# Altium schematic symbol library kmilo17pet-LT_OpAmp_LT2000.SchLib: 1710 symbols (part 70 of 75)
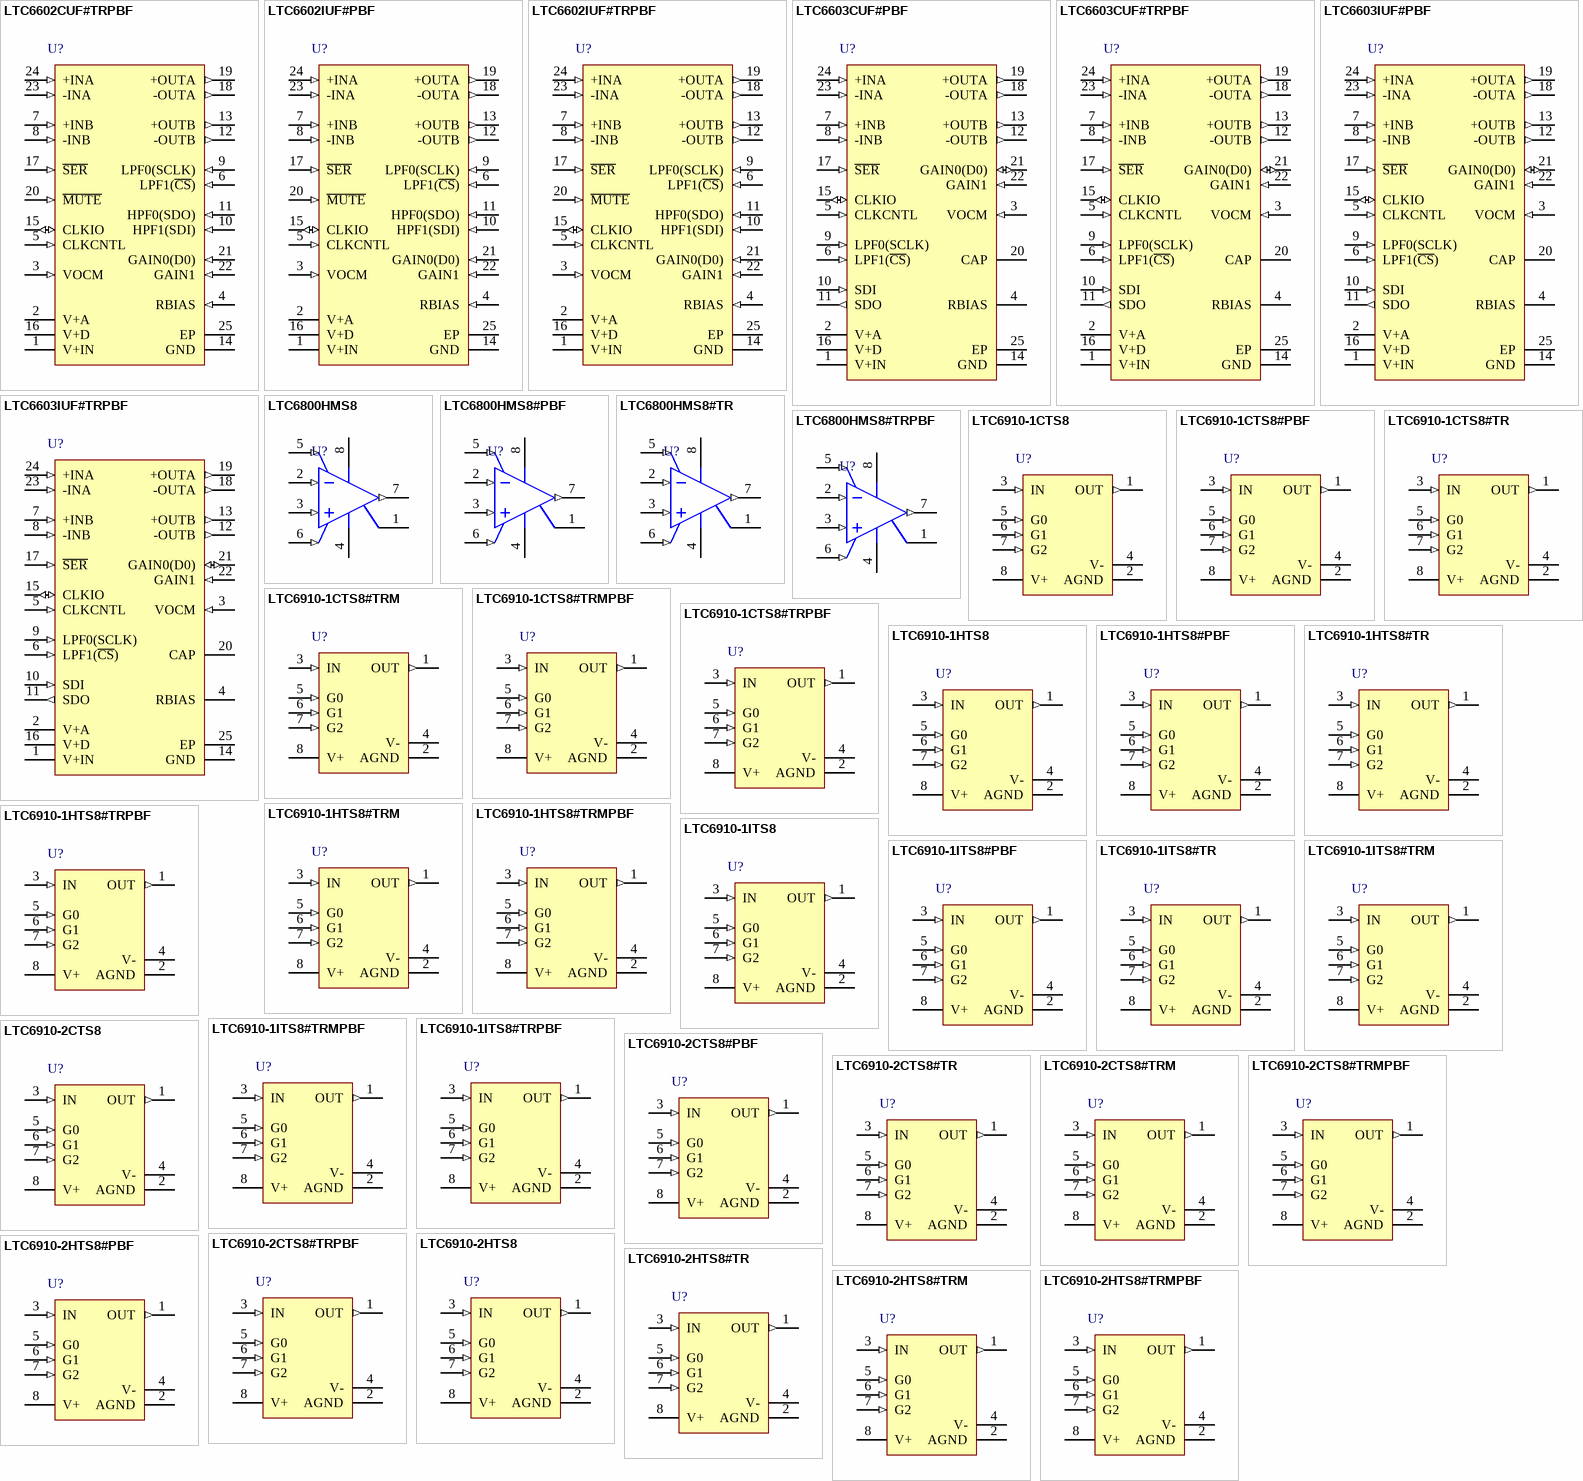
[diagram p149: symbols LTC6602CUF#TRPBF to LTC6910-2HTS8#TRMPBF]

## LTC6910-2CTS8#TRMPBF
designator U?
Single Channel, Digitally Controlled Programmable Gain Amplifier, 11 MHz Typical GBW, 16 V/us Typical SR, 2.7 to 11 V, 8-Pin SOT23 (TS8-8), Commercial, Pb-Free, Mini Reel; Linear Technology Part Number: LTC6910-2; Manufacturer: Linear Technology; PartNumber: LTC6910-2CTS8#TRMPBF; Channels (#): 1; GBW (MHz) Typical: 11; Is (mA) Typical: 2; SR (V/us) Typical: 16; Vos (mV) Typical: 3; Vs Min (V): 2.7; DatasheetVersion: Rev. A; PackageVersion: Rev A; PackageReference: LT-TS8-8-TSOT-23; PackageDescription: 8-Lead Plastic TSOT-23, Body 2.9 x 1.63 mm, Pitch 0.65 mm; Supplier 1: Digi-Key; Supplier Part Number 1: LTC6910-2CTS8#TRMPBFTR-ND; Supplier 2: Digi-Key; Supplier Part Number 2: LTC6910-2CTS8#TRMPBFCT-ND; Supplier 3: Digi-Key; Supplier Part Number 3: LTC6910-2CTS8#TRMPBFDKR-ND; Supplier 4: Farnell; Supplier Part Number 4: 1663931; Supplier 5: Farnell; Supplier Part Number 5: 1663931RL; Supplier 6: Newark; Supplier Part Number 6: 57M0342; Packing: Mini Reel; RoHS: Pb-Free; Type: PGA; Vs Max (V): 11; Mounting Technology: Surface Mount; Code_JEDEC: MO-193; ComponentLink1Description: Manufacturer URL; ComponentLink1URL: http://www.linear.com/; ComponentLink2Description: Datasheet; ComponentLink2URL: http://cds.linear.com/docs/en/datasheet/6910123fa.pdf; ComponentLink3Description: Package Specification; ComponentLink3URL: http://cds.linear.com/docs/en/packaging/SOT_8_05-08-1637.pdf
footprint LT-TS8-8-TSOT-23_V (SOT23, 8-Leads, Body 2.90x1.63mm, Pitch 0.65mm, IPC High Density, Recommended)
pins: 1 OUT (out) "Analog Output. This is the output of an internal operational amplifier and swings to near the power supply rails (V+ and V-) as specified in the Electrical Characteristics table.", 2 AGND (power) "Analog Ground. The AGND pin is at the midpoint of an internal resistive voltage divider, develop- ing a potential halfway between the V+ and V- pins, with an equivalent series resistance to the pin of nominally 5k ohm.", 3 IN (in) "Analog Input. The input signal to the amplifier in the LTC6910-X is the voltage difference between the IN and AGND pins.", 4 V- (power) "Power Supply Pin.", 5 G0 (in) "CMOS-Level Digital Gain- Control Input.", 6 G1 (in) "CMOS-Level Digital Gain- Control Input.", 7 G2 (in) "CMOS-Level Digital Gain- Control Input.", 8 V+ (power) "Power Supply Pin."

## LTC6910-2CTS8#TRPBF
designator U?
Single Channel, Digitally Controlled Programmable Gain Amplifier, 11 MHz Typical GBW, 16 V/us Typical SR, 2.7 to 11 V, 8-Pin SOT23 (TS8-8), Commercial, Pb-Free, Reel; Linear Technology Part Number: LTC6910-2; Manufacturer: Linear Technology; PartNumber: LTC6910-2CTS8#TRPBF; Channels (#): 1; GBW (MHz) Typical: 11; Is (mA) Typical: 2; SR (V/us) Typical: 16; Vos (mV) Typical: 3; Vs Min (V): 2.7; DatasheetVersion: Rev. A; PackageVersion: Rev A; PackageReference: LT-TS8-8-TSOT-23; PackageDescription: 8-Lead Plastic TSOT-23, Body 2.9 x 1.63 mm, Pitch 0.65 mm; Supplier 1: Digi-Key; Supplier Part Number 1: LTC6910-2CTS8#TRPBF-ND; Packing: Reel; RoHS: Pb-Free; Type: PGA; Vs Max (V): 11; Mounting Technology: Surface Mount; Code_JEDEC: MO-193; ComponentLink1Description: Manufacturer URL; ComponentLink1URL: http://www.linear.com/; ComponentLink2Description: Datasheet; ComponentLink2URL: http://cds.linear.com/docs/en/datasheet/6910123fa.pdf; ComponentLink3Description: Package Specification; ComponentLink3URL: http://cds.linear.com/docs/en/packaging/SOT_8_05-08-1637.pdf
footprint LT-TS8-8-TSOT-23_V (SOT23, 8-Leads, Body 2.90x1.63mm, Pitch 0.65mm, IPC High Density, Recommended)
pins: 1 OUT (out) "Analog Output. This is the output of an internal operational amplifier and swings to near the power supply rails (V+ and V-) as specified in the Electrical Characteristics table.", 2 AGND (power) "Analog Ground. The AGND pin is at the midpoint of an internal resistive voltage divider, develop- ing a potential halfway between the V+ and V- pins, with an equivalent series resistance to the pin of nominally 5k ohm.", 3 IN (in) "Analog Input. The input signal to the amplifier in the LTC6910-X is the voltage difference between the IN and AGND pins.", 4 V- (power) "Power Supply Pin.", 5 G0 (in) "CMOS-Level Digital Gain- Control Input.", 6 G1 (in) "CMOS-Level Digital Gain- Control Input.", 7 G2 (in) "CMOS-Level Digital Gain- Control Input.", 8 V+ (power) "Power Supply Pin."

## LTC6910-2HTS8
designator U?
Single Channel, Digitally Controlled Programmable Gain Amplifier, 11 MHz Typical GBW, 16 V/us Typical SR, 2.7 to 11 V, 8-Pin SOT23 (TS8-8), High Temperature / Automotive; Linear Technology Part Number: LTC6910-2; Manufacturer: Linear Technology; PartNumber: LTC6910-2HTS8; Channels (#): 1; GBW (MHz) Typical: 11; Is (mA) Typical: 2; SR (V/us) Typical: 16; Vos (mV) Typical: 3; Vs Min (V): 2.7; DatasheetVersion: Rev. A; PackageVersion: Rev A; PackageReference: LT-TS8-8-TSOT-23; PackageDescription: 8-Lead Plastic TSOT-23, Body 2.9 x 1.63 mm, Pitch 0.65 mm; Type: PGA; Vs Max (V): 11; Mounting Technology: Surface Mount; Code_JEDEC: MO-193; ComponentLink1Description: Manufacturer URL; ComponentLink1URL: http://www.linear.com/; ComponentLink2Description: Datasheet; ComponentLink2URL: http://cds.linear.com/docs/en/datasheet/6910123fa.pdf; ComponentLink3Description: Package Specification; ComponentLink3URL: http://cds.linear.com/docs/en/packaging/SOT_8_05-08-1637.pdf
footprint LT-TS8-8-TSOT-23_V (SOT23, 8-Leads, Body 2.90x1.63mm, Pitch 0.65mm, IPC High Density, Recommended)
pins: 1 OUT (out) "Analog Output. This is the output of an internal operational amplifier and swings to near the power supply rails (V+ and V-) as specified in the Electrical Characteristics table.", 2 AGND (power) "Analog Ground. The AGND pin is at the midpoint of an internal resistive voltage divider, develop- ing a potential halfway between the V+ and V- pins, with an equivalent series resistance to the pin of nominally 5k ohm.", 3 IN (in) "Analog Input. The input signal to the amplifier in the LTC6910-X is the voltage difference between the IN and AGND pins.", 4 V- (power) "Power Supply Pin.", 5 G0 (in) "CMOS-Level Digital Gain- Control Input.", 6 G1 (in) "CMOS-Level Digital Gain- Control Input.", 7 G2 (in) "CMOS-Level Digital Gain- Control Input.", 8 V+ (power) "Power Supply Pin."

## LTC6910-2HTS8#PBF
designator U?
Single Channel, Digitally Controlled Programmable Gain Amplifier, 11 MHz Typical GBW, 16 V/us Typical SR, 2.7 to 11 V, 8-Pin SOT23 (TS8-8), High Temperature / Automotive, Pb-Free; Linear Technology Part Number: LTC6910-2; Manufacturer: Linear Technology; PartNumber: LTC6910-2HTS8#PBF; Channels (#): 1; GBW (MHz) Typical: 11; Is (mA) Typical: 2; SR (V/us) Typical: 16; Vos (mV) Typical: 3; Vs Min (V): 2.7; DatasheetVersion: Rev. A; PackageVersion: Rev A; PackageReference: LT-TS8-8-TSOT-23; PackageDescription: 8-Lead Plastic TSOT-23, Body 2.9 x 1.63 mm, Pitch 0.65 mm; Supplier 1: Newark; Supplier Part Number 1: 78T3520; RoHS: Pb-Free; Type: PGA; Vs Max (V): 11; Mounting Technology: Surface Mount; Code_JEDEC: MO-193; ComponentLink1Description: Manufacturer URL; ComponentLink1URL: http://www.linear.com/; ComponentLink2Description: Datasheet; ComponentLink2URL: http://cds.linear.com/docs/en/datasheet/6910123fa.pdf; ComponentLink3Description: Package Specification; ComponentLink3URL: http://cds.linear.com/docs/en/packaging/SOT_8_05-08-1637.pdf
footprint LT-TS8-8-TSOT-23_V (SOT23, 8-Leads, Body 2.90x1.63mm, Pitch 0.65mm, IPC High Density, Recommended)
pins: 1 OUT (out) "Analog Output. This is the output of an internal operational amplifier and swings to near the power supply rails (V+ and V-) as specified in the Electrical Characteristics table.", 2 AGND (power) "Analog Ground. The AGND pin is at the midpoint of an internal resistive voltage divider, develop- ing a potential halfway between the V+ and V- pins, with an equivalent series resistance to the pin of nominally 5k ohm.", 3 IN (in) "Analog Input. The input signal to the amplifier in the LTC6910-X is the voltage difference between the IN and AGND pins.", 4 V- (power) "Power Supply Pin.", 5 G0 (in) "CMOS-Level Digital Gain- Control Input.", 6 G1 (in) "CMOS-Level Digital Gain- Control Input.", 7 G2 (in) "CMOS-Level Digital Gain- Control Input.", 8 V+ (power) "Power Supply Pin."

## LTC6910-2HTS8#TR
designator U?
Single Channel, Digitally Controlled Programmable Gain Amplifier, 11 MHz Typical GBW, 16 V/us Typical SR, 2.7 to 11 V, 8-Pin SOT23 (TS8-8), High Temperature / Automotive, Reel; Linear Technology Part Number: LTC6910-2; Manufacturer: Linear Technology; PartNumber: LTC6910-2HTS8#TR; Channels (#): 1; GBW (MHz) Typical: 11; Is (mA) Typical: 2; SR (V/us) Typical: 16; Vos (mV) Typical: 3; Vs Min (V): 2.7; DatasheetVersion: Rev. A; PackageVersion: Rev A; PackageReference: LT-TS8-8-TSOT-23; PackageDescription: 8-Lead Plastic TSOT-23, Body 2.9 x 1.63 mm, Pitch 0.65 mm; Supplier 1: Digi-Key; Supplier Part Number 1: LTC6910-2HTS8#TR-ND; Packing: Reel; Type: PGA; Vs Max (V): 11; Mounting Technology: Surface Mount; Code_JEDEC: MO-193; ComponentLink1Description: Manufacturer URL; ComponentLink1URL: http://www.linear.com/; ComponentLink2Description: Datasheet; ComponentLink2URL: http://cds.linear.com/docs/en/datasheet/6910123fa.pdf; ComponentLink3Description: Package Specification; ComponentLink3URL: http://cds.linear.com/docs/en/packaging/SOT_8_05-08-1637.pdf
footprint LT-TS8-8-TSOT-23_V (SOT23, 8-Leads, Body 2.90x1.63mm, Pitch 0.65mm, IPC High Density, Recommended)
pins: 1 OUT (out) "Analog Output. This is the output of an internal operational amplifier and swings to near the power supply rails (V+ and V-) as specified in the Electrical Characteristics table.", 2 AGND (power) "Analog Ground. The AGND pin is at the midpoint of an internal resistive voltage divider, develop- ing a potential halfway between the V+ and V- pins, with an equivalent series resistance to the pin of nominally 5k ohm.", 3 IN (in) "Analog Input. The input signal to the amplifier in the LTC6910-X is the voltage difference between the IN and AGND pins.", 4 V- (power) "Power Supply Pin.", 5 G0 (in) "CMOS-Level Digital Gain- Control Input.", 6 G1 (in) "CMOS-Level Digital Gain- Control Input.", 7 G2 (in) "CMOS-Level Digital Gain- Control Input.", 8 V+ (power) "Power Supply Pin."

## LTC6910-2HTS8#TRM
designator U?
Single Channel, Digitally Controlled Programmable Gain Amplifier, 11 MHz Typical GBW, 16 V/us Typical SR, 2.7 to 11 V, 8-Pin SOT23 (TS8-8), High Temperature / Automotive, Mini Reel; Linear Technology Part Number: LTC6910-2; Manufacturer: Linear Technology; PartNumber: LTC6910-2HTS8#TRM; Channels (#): 1; GBW (MHz) Typical: 11; Is (mA) Typical: 2; SR (V/us) Typical: 16; Vos (mV) Typical: 3; Vs Min (V): 2.7; DatasheetVersion: Rev. A; PackageVersion: Rev A; PackageReference: LT-TS8-8-TSOT-23; PackageDescription: 8-Lead Plastic TSOT-23, Body 2.9 x 1.63 mm, Pitch 0.65 mm; Supplier 1: Digi-Key; Supplier Part Number 1: LTC6910-2HTS8#TRMTR-ND; Supplier 2: Digi-Key; Supplier Part Number 2: LTC6910-2HTS8#TRMCT-ND; Packing: Mini Reel; Type: PGA; Vs Max (V): 11; Mounting Technology: Surface Mount; Code_JEDEC: MO-193; ComponentLink1Description: Manufacturer URL; ComponentLink1URL: http://www.linear.com/; ComponentLink2Description: Datasheet; ComponentLink2URL: http://cds.linear.com/docs/en/datasheet/6910123fa.pdf; ComponentLink3Description: Package Specification; ComponentLink3URL: http://cds.linear.com/docs/en/packaging/SOT_8_05-08-1637.pdf
footprint LT-TS8-8-TSOT-23_V (SOT23, 8-Leads, Body 2.90x1.63mm, Pitch 0.65mm, IPC High Density, Recommended)
pins: 1 OUT (out) "Analog Output. This is the output of an internal operational amplifier and swings to near the power supply rails (V+ and V-) as specified in the Electrical Characteristics table.", 2 AGND (power) "Analog Ground. The AGND pin is at the midpoint of an internal resistive voltage divider, develop- ing a potential halfway between the V+ and V- pins, with an equivalent series resistance to the pin of nominally 5k ohm.", 3 IN (in) "Analog Input. The input signal to the amplifier in the LTC6910-X is the voltage difference between the IN and AGND pins.", 4 V- (power) "Power Supply Pin.", 5 G0 (in) "CMOS-Level Digital Gain- Control Input.", 6 G1 (in) "CMOS-Level Digital Gain- Control Input.", 7 G2 (in) "CMOS-Level Digital Gain- Control Input.", 8 V+ (power) "Power Supply Pin."

## LTC6910-2HTS8#TRMPBF
designator U?
Single Channel, Digitally Controlled Programmable Gain Amplifier, 11 MHz Typical GBW, 16 V/us Typical SR, 2.7 to 11 V, 8-Pin SOT23 (TS8-8), High Temperature / Automotive, Pb-Free, Mini Reel; Linear Technology Part Number: LTC6910-2; Manufacturer: Linear Technology; PartNumber: LTC6910-2HTS8#TRMPBF; Channels (#): 1; GBW (MHz) Typical: 11; Is (mA) Typical: 2; SR (V/us) Typical: 16; Vos (mV) Typical: 3; Vs Min (V): 2.7; DatasheetVersion: Rev. A; PackageVersion: Rev A; PackageReference: LT-TS8-8-TSOT-23; PackageDescription: 8-Lead Plastic TSOT-23, Body 2.9 x 1.63 mm, Pitch 0.65 mm; Supplier 1: Digi-Key; Supplier Part Number 1: LTC6910-2HTS8#TRMPBF-ND; Packing: Mini Reel; RoHS: Pb-Free; Type: PGA; Vs Max (V): 11; Mounting Technology: Surface Mount; Code_JEDEC: MO-193; ComponentLink1Description: Manufacturer URL; ComponentLink1URL: http://www.linear.com/; ComponentLink2Description: Datasheet; ComponentLink2URL: http://cds.linear.com/docs/en/datasheet/6910123fa.pdf; ComponentLink3Description: Package Specification; ComponentLink3URL: http://cds.linear.com/docs/en/packaging/SOT_8_05-08-1637.pdf
footprint LT-TS8-8-TSOT-23_V (SOT23, 8-Leads, Body 2.90x1.63mm, Pitch 0.65mm, IPC High Density, Recommended)
pins: 1 OUT (out) "Analog Output. This is the output of an internal operational amplifier and swings to near the power supply rails (V+ and V-) as specified in the Electrical Characteristics table.", 2 AGND (power) "Analog Ground. The AGND pin is at the midpoint of an internal resistive voltage divider, develop- ing a potential halfway between the V+ and V- pins, with an equivalent series resistance to the pin of nominally 5k ohm.", 3 IN (in) "Analog Input. The input signal to the amplifier in the LTC6910-X is the voltage difference between the IN and AGND pins.", 4 V- (power) "Power Supply Pin.", 5 G0 (in) "CMOS-Level Digital Gain- Control Input.", 6 G1 (in) "CMOS-Level Digital Gain- Control Input.", 7 G2 (in) "CMOS-Level Digital Gain- Control Input.", 8 V+ (power) "Power Supply Pin."

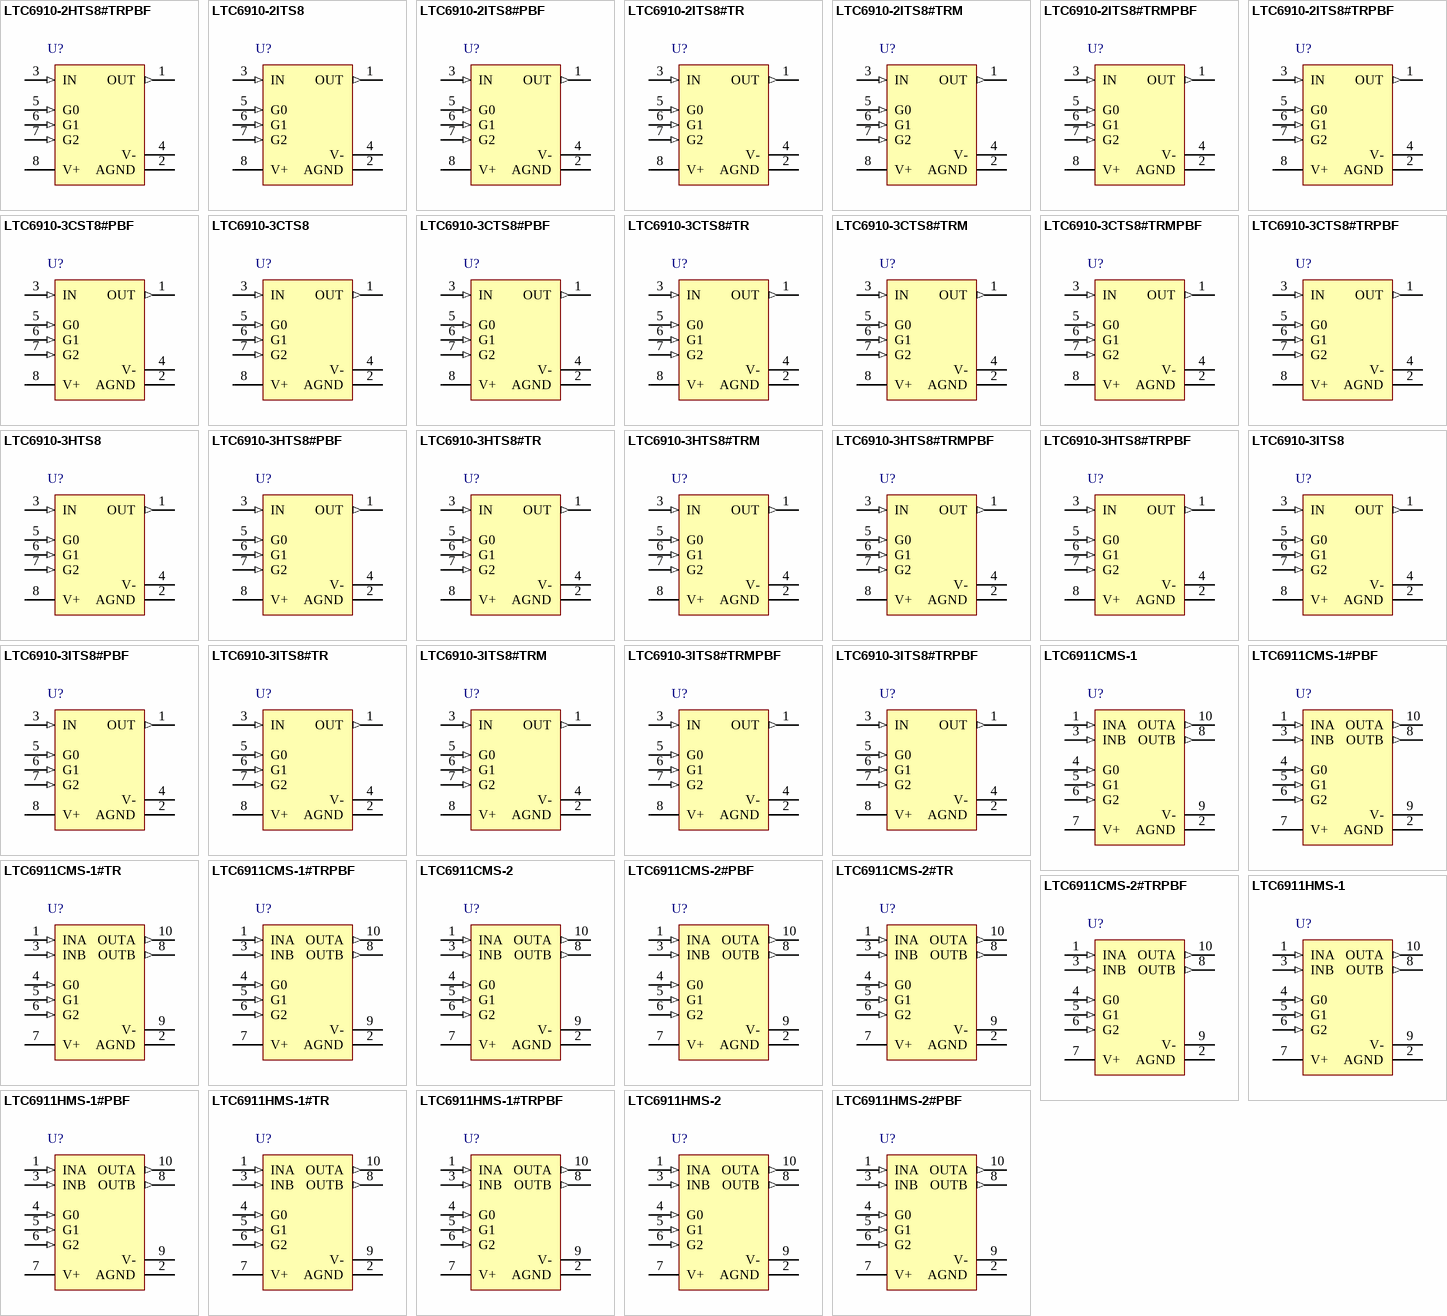
[diagram p78: symbols LTC6910-2HTS8#TRPBF to LTC6911HMS-2#PBF]

## LTC6910-2HTS8#TRPBF
designator U?
Single Channel, Digitally Controlled Programmable Gain Amplifier, 11 MHz Typical GBW, 16 V/us Typical SR, 2.7 to 11 V, 8-Pin SOT23 (TS8-8), High Temperature / Automotive, Pb-Free, Reel; Linear Technology Part Number: LTC6910-2; Manufacturer: Linear Technology; PartNumber: LTC6910-2HTS8#TRPBF; Channels (#): 1; GBW (MHz) Typical: 11; Is (mA) Typical: 2; SR (V/us) Typical: 16; Vos (mV) Typical: 3; Vs Min (V): 2.7; DatasheetVersion: Rev. A; PackageVersion: Rev A; PackageReference: LT-TS8-8-TSOT-23; PackageDescription: 8-Lead Plastic TSOT-23, Body 2.9 x 1.63 mm, Pitch 0.65 mm; Supplier 1: Digi-Key; Supplier Part Number 1: LTC6910-2HTS8#TRPBF-ND; Packing: Reel; RoHS: Pb-Free; Type: PGA; Vs Max (V): 11; Mounting Technology: Surface Mount; Code_JEDEC: MO-193; ComponentLink1Description: Manufacturer URL; ComponentLink1URL: http://www.linear.com/; ComponentLink2Description: Datasheet; ComponentLink2URL: http://cds.linear.com/docs/en/datasheet/6910123fa.pdf; ComponentLink3Description: Package Specification; ComponentLink3URL: http://cds.linear.com/docs/en/packaging/SOT_8_05-08-1637.pdf
footprint LT-TS8-8-TSOT-23_V (SOT23, 8-Leads, Body 2.90x1.63mm, Pitch 0.65mm, IPC High Density, Recommended)
pins: 1 OUT (out) "Analog Output. This is the output of an internal operational amplifier and swings to near the power supply rails (V+ and V-) as specified in the Electrical Characteristics table.", 2 AGND (power) "Analog Ground. The AGND pin is at the midpoint of an internal resistive voltage divider, develop- ing a potential halfway between the V+ and V- pins, with an equivalent series resistance to the pin of nominally 5k ohm.", 3 IN (in) "Analog Input. The input signal to the amplifier in the LTC6910-X is the voltage difference between the IN and AGND pins.", 4 V- (power) "Power Supply Pin.", 5 G0 (in) "CMOS-Level Digital Gain- Control Input.", 6 G1 (in) "CMOS-Level Digital Gain- Control Input.", 7 G2 (in) "CMOS-Level Digital Gain- Control Input.", 8 V+ (power) "Power Supply Pin."

## LTC6910-2ITS8
designator U?
Single Channel, Digitally Controlled Programmable Gain Amplifier, 11 MHz Typical GBW, 16 V/us Typical SR, 2.7 to 11 V, 8-Pin SOT23 (TS8-8), Industrial; Linear Technology Part Number: LTC6910-2; Manufacturer: Linear Technology; PartNumber: LTC6910-2ITS8; Channels (#): 1; GBW (MHz) Typical: 11; Is (mA) Typical: 2; SR (V/us) Typical: 16; Vos (mV) Typical: 3; Vs Min (V): 2.7; DatasheetVersion: Rev. A; PackageVersion: Rev A; PackageReference: LT-TS8-8-TSOT-23; PackageDescription: 8-Lead Plastic TSOT-23, Body 2.9 x 1.63 mm, Pitch 0.65 mm; Type: PGA; Vs Max (V): 11; Mounting Technology: Surface Mount; Code_JEDEC: MO-193; ComponentLink1Description: Manufacturer URL; ComponentLink1URL: http://www.linear.com/; ComponentLink2Description: Datasheet; ComponentLink2URL: http://cds.linear.com/docs/en/datasheet/6910123fa.pdf; ComponentLink3Description: Package Specification; ComponentLink3URL: http://cds.linear.com/docs/en/packaging/SOT_8_05-08-1637.pdf
footprint LT-TS8-8-TSOT-23_V (SOT23, 8-Leads, Body 2.90x1.63mm, Pitch 0.65mm, IPC High Density, Recommended)
pins: 1 OUT (out) "Analog Output. This is the output of an internal operational amplifier and swings to near the power supply rails (V+ and V-) as specified in the Electrical Characteristics table.", 2 AGND (power) "Analog Ground. The AGND pin is at the midpoint of an internal resistive voltage divider, develop- ing a potential halfway between the V+ and V- pins, with an equivalent series resistance to the pin of nominally 5k ohm.", 3 IN (in) "Analog Input. The input signal to the amplifier in the LTC6910-X is the voltage difference between the IN and AGND pins.", 4 V- (power) "Power Supply Pin.", 5 G0 (in) "CMOS-Level Digital Gain- Control Input.", 6 G1 (in) "CMOS-Level Digital Gain- Control Input.", 7 G2 (in) "CMOS-Level Digital Gain- Control Input.", 8 V+ (power) "Power Supply Pin."

## LTC6910-2ITS8#PBF
designator U?
Single Channel, Digitally Controlled Programmable Gain Amplifier, 11 MHz Typical GBW, 16 V/us Typical SR, 2.7 to 11 V, 8-Pin SOT23 (TS8-8), Industrial, Pb-Free; Linear Technology Part Number: LTC6910-2; Manufacturer: Linear Technology; PartNumber: LTC6910-2ITS8#PBF; Channels (#): 1; GBW (MHz) Typical: 11; Is (mA) Typical: 2; SR (V/us) Typical: 16; Vos (mV) Typical: 3; Vs Min (V): 2.7; DatasheetVersion: Rev. A; PackageVersion: Rev A; PackageReference: LT-TS8-8-TSOT-23; PackageDescription: 8-Lead Plastic TSOT-23, Body 2.9 x 1.63 mm, Pitch 0.65 mm; Supplier 1: Farnell; Supplier Part Number 1: 2294769; Supplier 2: Newark; Supplier Part Number 2: 78T3521; RoHS: Pb-Free; Type: PGA; Vs Max (V): 11; Mounting Technology: Surface Mount; Code_JEDEC: MO-193; ComponentLink1Description: Manufacturer URL; ComponentLink1URL: http://www.linear.com/; ComponentLink2Description: Datasheet; ComponentLink2URL: http://cds.linear.com/docs/en/datasheet/6910123fa.pdf; ComponentLink3Description: Package Specification; ComponentLink3URL: http://cds.linear.com/docs/en/packaging/SOT_8_05-08-1637.pdf
footprint LT-TS8-8-TSOT-23_V (SOT23, 8-Leads, Body 2.90x1.63mm, Pitch 0.65mm, IPC High Density, Recommended)
pins: 1 OUT (out) "Analog Output. This is the output of an internal operational amplifier and swings to near the power supply rails (V+ and V-) as specified in the Electrical Characteristics table.", 2 AGND (power) "Analog Ground. The AGND pin is at the midpoint of an internal resistive voltage divider, develop- ing a potential halfway between the V+ and V- pins, with an equivalent series resistance to the pin of nominally 5k ohm.", 3 IN (in) "Analog Input. The input signal to the amplifier in the LTC6910-X is the voltage difference between the IN and AGND pins.", 4 V- (power) "Power Supply Pin.", 5 G0 (in) "CMOS-Level Digital Gain- Control Input.", 6 G1 (in) "CMOS-Level Digital Gain- Control Input.", 7 G2 (in) "CMOS-Level Digital Gain- Control Input.", 8 V+ (power) "Power Supply Pin."

## LTC6910-2ITS8#TR
designator U?
Single Channel, Digitally Controlled Programmable Gain Amplifier, 11 MHz Typical GBW, 16 V/us Typical SR, 2.7 to 11 V, 8-Pin SOT23 (TS8-8), Industrial, Reel; Linear Technology Part Number: LTC6910-2; Manufacturer: Linear Technology; PartNumber: LTC6910-2ITS8#TR; Channels (#): 1; GBW (MHz) Typical: 11; Is (mA) Typical: 2; SR (V/us) Typical: 16; Vos (mV) Typical: 3; Vs Min (V): 2.7; DatasheetVersion: Rev. A; PackageVersion: Rev A; PackageReference: LT-TS8-8-TSOT-23; PackageDescription: 8-Lead Plastic TSOT-23, Body 2.9 x 1.63 mm, Pitch 0.65 mm; Supplier 1: Digi-Key; Supplier Part Number 1: LTC6910-2ITS8#TR-ND; Packing: Reel; Type: PGA; Vs Max (V): 11; Mounting Technology: Surface Mount; Code_JEDEC: MO-193; ComponentLink1Description: Manufacturer URL; ComponentLink1URL: http://www.linear.com/; ComponentLink2Description: Datasheet; ComponentLink2URL: http://cds.linear.com/docs/en/datasheet/6910123fa.pdf; ComponentLink3Description: Package Specification; ComponentLink3URL: http://cds.linear.com/docs/en/packaging/SOT_8_05-08-1637.pdf
footprint LT-TS8-8-TSOT-23_V (SOT23, 8-Leads, Body 2.90x1.63mm, Pitch 0.65mm, IPC High Density, Recommended)
pins: 1 OUT (out) "Analog Output. This is the output of an internal operational amplifier and swings to near the power supply rails (V+ and V-) as specified in the Electrical Characteristics table.", 2 AGND (power) "Analog Ground. The AGND pin is at the midpoint of an internal resistive voltage divider, develop- ing a potential halfway between the V+ and V- pins, with an equivalent series resistance to the pin of nominally 5k ohm.", 3 IN (in) "Analog Input. The input signal to the amplifier in the LTC6910-X is the voltage difference between the IN and AGND pins.", 4 V- (power) "Power Supply Pin.", 5 G0 (in) "CMOS-Level Digital Gain- Control Input.", 6 G1 (in) "CMOS-Level Digital Gain- Control Input.", 7 G2 (in) "CMOS-Level Digital Gain- Control Input.", 8 V+ (power) "Power Supply Pin."

## LTC6910-2ITS8#TRM
designator U?
Single Channel, Digitally Controlled Programmable Gain Amplifier, 11 MHz Typical GBW, 16 V/us Typical SR, 2.7 to 11 V, 8-Pin SOT23 (TS8-8), Industrial, Mini Reel; Linear Technology Part Number: LTC6910-2; Manufacturer: Linear Technology; PartNumber: LTC6910-2ITS8#TRM; Channels (#): 1; GBW (MHz) Typical: 11; Is (mA) Typical: 2; SR (V/us) Typical: 16; Vos (mV) Typical: 3; Vs Min (V): 2.7; DatasheetVersion: Rev. A; PackageVersion: Rev A; PackageReference: LT-TS8-8-TSOT-23; PackageDescription: 8-Lead Plastic TSOT-23, Body 2.9 x 1.63 mm, Pitch 0.65 mm; Supplier 1: Digi-Key; Supplier Part Number 1: LTC6910-2ITS8#TRM-ND; Packing: Mini Reel; Type: PGA; Vs Max (V): 11; Mounting Technology: Surface Mount; Code_JEDEC: MO-193; ComponentLink1Description: Manufacturer URL; ComponentLink1URL: http://www.linear.com/; ComponentLink2Description: Datasheet; ComponentLink2URL: http://cds.linear.com/docs/en/datasheet/6910123fa.pdf; ComponentLink3Description: Package Specification; ComponentLink3URL: http://cds.linear.com/docs/en/packaging/SOT_8_05-08-1637.pdf
footprint LT-TS8-8-TSOT-23_V (SOT23, 8-Leads, Body 2.90x1.63mm, Pitch 0.65mm, IPC High Density, Recommended)
pins: 1 OUT (out) "Analog Output. This is the output of an internal operational amplifier and swings to near the power supply rails (V+ and V-) as specified in the Electrical Characteristics table.", 2 AGND (power) "Analog Ground. The AGND pin is at the midpoint of an internal resistive voltage divider, develop- ing a potential halfway between the V+ and V- pins, with an equivalent series resistance to the pin of nominally 5k ohm.", 3 IN (in) "Analog Input. The input signal to the amplifier in the LTC6910-X is the voltage difference between the IN and AGND pins.", 4 V- (power) "Power Supply Pin.", 5 G0 (in) "CMOS-Level Digital Gain- Control Input.", 6 G1 (in) "CMOS-Level Digital Gain- Control Input.", 7 G2 (in) "CMOS-Level Digital Gain- Control Input.", 8 V+ (power) "Power Supply Pin."

## LTC6910-2ITS8#TRMPBF
designator U?
Single Channel, Digitally Controlled Programmable Gain Amplifier, 11 MHz Typical GBW, 16 V/us Typical SR, 2.7 to 11 V, 8-Pin SOT23 (TS8-8), Industrial, Pb-Free, Mini Reel; Linear Technology Part Number: LTC6910-2; Manufacturer: Linear Technology; PartNumber: LTC6910-2ITS8#TRMPBF; Channels (#): 1; GBW (MHz) Typical: 11; Is (mA) Typical: 2; SR (V/us) Typical: 16; Vos (mV) Typical: 3; Vs Min (V): 2.7; DatasheetVersion: Rev. A; PackageVersion: Rev A; PackageReference: LT-TS8-8-TSOT-23; PackageDescription: 8-Lead Plastic TSOT-23, Body 2.9 x 1.63 mm, Pitch 0.65 mm; Supplier 1: Digi-Key; Supplier Part Number 1: LTC6910-2ITS8#TRMPBF-ND; Supplier 2: Newark; Supplier Part Number 2: 57M0350; Packing: Mini Reel; RoHS: Pb-Free; Type: PGA; Vs Max (V): 11; Mounting Technology: Surface Mount; Code_JEDEC: MO-193; ComponentLink1Description: Manufacturer URL; ComponentLink1URL: http://www.linear.com/; ComponentLink2Description: Datasheet; ComponentLink2URL: http://cds.linear.com/docs/en/datasheet/6910123fa.pdf; ComponentLink3Description: Package Specification; ComponentLink3URL: http://cds.linear.com/docs/en/packaging/SOT_8_05-08-1637.pdf
footprint LT-TS8-8-TSOT-23_V (SOT23, 8-Leads, Body 2.90x1.63mm, Pitch 0.65mm, IPC High Density, Recommended)
pins: 1 OUT (out) "Analog Output. This is the output of an internal operational amplifier and swings to near the power supply rails (V+ and V-) as specified in the Electrical Characteristics table.", 2 AGND (power) "Analog Ground. The AGND pin is at the midpoint of an internal resistive voltage divider, develop- ing a potential halfway between the V+ and V- pins, with an equivalent series resistance to the pin of nominally 5k ohm.", 3 IN (in) "Analog Input. The input signal to the amplifier in the LTC6910-X is the voltage difference between the IN and AGND pins.", 4 V- (power) "Power Supply Pin.", 5 G0 (in) "CMOS-Level Digital Gain- Control Input.", 6 G1 (in) "CMOS-Level Digital Gain- Control Input.", 7 G2 (in) "CMOS-Level Digital Gain- Control Input.", 8 V+ (power) "Power Supply Pin."

## LTC6910-2ITS8#TRPBF
designator U?
Single Channel, Digitally Controlled Programmable Gain Amplifier, 11 MHz Typical GBW, 16 V/us Typical SR, 2.7 to 11 V, 8-Pin SOT23 (TS8-8), Industrial, Pb-Free, Reel; Linear Technology Part Number: LTC6910-2; Manufacturer: Linear Technology; PartNumber: LTC6910-2ITS8#TRPBF; Channels (#): 1; GBW (MHz) Typical: 11; Is (mA) Typical: 2; SR (V/us) Typical: 16; Vos (mV) Typical: 3; Vs Min (V): 2.7; DatasheetVersion: Rev. A; PackageVersion: Rev A; PackageReference: LT-TS8-8-TSOT-23; PackageDescription: 8-Lead Plastic TSOT-23, Body 2.9 x 1.63 mm, Pitch 0.65 mm; Supplier 1: Digi-Key; Supplier Part Number 1: LTC6910-2ITS8#TRPBF-ND; Packing: Reel; RoHS: Pb-Free; Type: PGA; Vs Max (V): 11; Mounting Technology: Surface Mount; Code_JEDEC: MO-193; ComponentLink1Description: Manufacturer URL; ComponentLink1URL: http://www.linear.com/; ComponentLink2Description: Datasheet; ComponentLink2URL: http://cds.linear.com/docs/en/datasheet/6910123fa.pdf; ComponentLink3Description: Package Specification; ComponentLink3URL: http://cds.linear.com/docs/en/packaging/SOT_8_05-08-1637.pdf
footprint LT-TS8-8-TSOT-23_V (SOT23, 8-Leads, Body 2.90x1.63mm, Pitch 0.65mm, IPC High Density, Recommended)
pins: 1 OUT (out) "Analog Output. This is the output of an internal operational amplifier and swings to near the power supply rails (V+ and V-) as specified in the Electrical Characteristics table.", 2 AGND (power) "Analog Ground. The AGND pin is at the midpoint of an internal resistive voltage divider, develop- ing a potential halfway between the V+ and V- pins, with an equivalent series resistance to the pin of nominally 5k ohm.", 3 IN (in) "Analog Input. The input signal to the amplifier in the LTC6910-X is the voltage difference between the IN and AGND pins.", 4 V- (power) "Power Supply Pin.", 5 G0 (in) "CMOS-Level Digital Gain- Control Input.", 6 G1 (in) "CMOS-Level Digital Gain- Control Input.", 7 G2 (in) "CMOS-Level Digital Gain- Control Input.", 8 V+ (power) "Power Supply Pin."

## LTC6910-3CST8#PBF
designator U?
Single Channel, Digitally Controlled Programmable Gain Amplifier, 11 MHz Typical GBW, 16 V/us Typical SR, 2.7 to 11 V, 8-Pin SOT23 (TS8-8), Commercial, Pb-Free; Linear Technology Part Number: LTC6910-3; Manufacturer: Linear Technology; PartNumber: LTC6910-3CST8#PBF; Channels (#): 1; GBW (MHz) Typical: 11; Is (mA) Typical: 2; SR (V/us) Typical: 16; Vos (mV) Typical: 3; Vs Min (V): 2.7; DatasheetVersion: Rev. A; PackageVersion: Rev A; PackageReference: LT-TS8-8-TSOT-23; PackageDescription: 8-Lead Plastic TSOT-23, Body 2.9 x 1.63 mm, Pitch 0.65 mm; RoHS: Pb-Free; Type: PGA; Vs Max (V): 11; Mounting Technology: Surface Mount; Code_JEDEC: MO-193; ComponentLink1Description: Manufacturer URL; ComponentLink1URL: http://www.linear.com/; ComponentLink2Description: Datasheet; ComponentLink2URL: http://cds.linear.com/docs/en/datasheet/6910123fa.pdf; ComponentLink3Description: Package Specification; ComponentLink3URL: http://cds.linear.com/docs/en/packaging/SOT_8_05-08-1637.pdf
footprint LT-TS8-8-TSOT-23_V (SOT23, 8-Leads, Body 2.90x1.63mm, Pitch 0.65mm, IPC High Density, Recommended)
pins: 1 OUT (out) "Analog Output. This is the output of an internal operational amplifier and swings to near the power supply rails (V+ and V-) as specified in the Electrical Characteristics table.", 2 AGND (power) "Analog Ground. The AGND pin is at the midpoint of an internal resistive voltage divider, develop- ing a potential halfway between the V+ and V- pins, with an equivalent series resistance to the pin of nominally 5k ohm.", 3 IN (in) "Analog Input. The input signal to the amplifier in the LTC6910-X is the voltage difference between the IN and AGND pins.", 4 V- (power) "Power Supply Pin.", 5 G0 (in) "CMOS-Level Digital Gain- Control Input.", 6 G1 (in) "CMOS-Level Digital Gain- Control Input.", 7 G2 (in) "CMOS-Level Digital Gain- Control Input.", 8 V+ (power) "Power Supply Pin."

## LTC6910-3CTS8
designator U?
Single Channel, Digitally Controlled Programmable Gain Amplifier, 11 MHz Typical GBW, 16 V/us Typical SR, 2.7 to 11 V, 8-Pin SOT23 (TS8-8), Commercial; Linear Technology Part Number: LTC6910-3; Manufacturer: Linear Technology; PartNumber: LTC6910-3CTS8; Channels (#): 1; GBW (MHz) Typical: 11; Is (mA) Typical: 2; SR (V/us) Typical: 16; Vos (mV) Typical: 3; Vs Min (V): 2.7; DatasheetVersion: Rev. A; PackageVersion: Rev A; PackageReference: LT-TS8-8-TSOT-23; PackageDescription: 8-Lead Plastic TSOT-23, Body 2.9 x 1.63 mm, Pitch 0.65 mm; Type: PGA; Vs Max (V): 11; Mounting Technology: Surface Mount; Code_JEDEC: MO-193; ComponentLink1Description: Manufacturer URL; ComponentLink1URL: http://www.linear.com/; ComponentLink2Description: Datasheet; ComponentLink2URL: http://cds.linear.com/docs/en/datasheet/6910123fa.pdf; ComponentLink3Description: Package Specification; ComponentLink3URL: http://cds.linear.com/docs/en/packaging/SOT_8_05-08-1637.pdf
footprint LT-TS8-8-TSOT-23_V (SOT23, 8-Leads, Body 2.90x1.63mm, Pitch 0.65mm, IPC High Density, Recommended)
pins: 1 OUT (out) "Analog Output. This is the output of an internal operational amplifier and swings to near the power supply rails (V+ and V-) as specified in the Electrical Characteristics table.", 2 AGND (power) "Analog Ground. The AGND pin is at the midpoint of an internal resistive voltage divider, develop- ing a potential halfway between the V+ and V- pins, with an equivalent series resistance to the pin of nominally 5k ohm.", 3 IN (in) "Analog Input. The input signal to the amplifier in the LTC6910-X is the voltage difference between the IN and AGND pins.", 4 V- (power) "Power Supply Pin.", 5 G0 (in) "CMOS-Level Digital Gain- Control Input.", 6 G1 (in) "CMOS-Level Digital Gain- Control Input.", 7 G2 (in) "CMOS-Level Digital Gain- Control Input.", 8 V+ (power) "Power Supply Pin."

## LTC6910-3CTS8#PBF
designator U?
Single Channel, Digitally Controlled Programmable Gain Amplifier, 11 MHz Typical GBW, 16 V/us Typical SR, 2.7 to 11 V, 8-Pin SOT23 (TS8-8), Commercial, Pb-Free; Linear Technology Part Number: LTC6910-3; Manufacturer: Linear Technology; PartNumber: LTC6910-3CTS8#PBF; Channels (#): 1; GBW (MHz) Typical: 11; Is (mA) Typical: 2; SR (V/us) Typical: 16; Vos (mV) Typical: 3; Vs Min (V): 2.7; DatasheetVersion: Rev. A; PackageVersion: Rev A; PackageReference: LT-TS8-8-TSOT-23; PackageDescription: 8-Lead Plastic TSOT-23, Body 2.9 x 1.63 mm, Pitch 0.65 mm; RoHS: Pb-Free; Type: PGA; Vs Max (V): 11; Mounting Technology: Surface Mount; Code_JEDEC: MO-193; ComponentLink1Description: Manufacturer URL; ComponentLink1URL: http://www.linear.com/; ComponentLink2Description: Datasheet; ComponentLink2URL: http://cds.linear.com/docs/en/datasheet/6910123fa.pdf; ComponentLink3Description: Package Specification; ComponentLink3URL: http://cds.linear.com/docs/en/packaging/SOT_8_05-08-1637.pdf
footprint LT-TS8-8-TSOT-23_V (SOT23, 8-Leads, Body 2.90x1.63mm, Pitch 0.65mm, IPC High Density, Recommended)
pins: 1 OUT (out) "Analog Output. This is the output of an internal operational amplifier and swings to near the power supply rails (V+ and V-) as specified in the Electrical Characteristics table.", 2 AGND (power) "Analog Ground. The AGND pin is at the midpoint of an internal resistive voltage divider, develop- ing a potential halfway between the V+ and V- pins, with an equivalent series resistance to the pin of nominally 5k ohm.", 3 IN (in) "Analog Input. The input signal to the amplifier in the LTC6910-X is the voltage difference between the IN and AGND pins.", 4 V- (power) "Power Supply Pin.", 5 G0 (in) "CMOS-Level Digital Gain- Control Input.", 6 G1 (in) "CMOS-Level Digital Gain- Control Input.", 7 G2 (in) "CMOS-Level Digital Gain- Control Input.", 8 V+ (power) "Power Supply Pin."

## LTC6910-3CTS8#TR
designator U?
Single Channel, Digitally Controlled Programmable Gain Amplifier, 11 MHz Typical GBW, 16 V/us Typical SR, 2.7 to 11 V, 8-Pin SOT23 (TS8-8), Commercial, Reel; Linear Technology Part Number: LTC6910-3; Manufacturer: Linear Technology; PartNumber: LTC6910-3CTS8#TR; Channels (#): 1; GBW (MHz) Typical: 11; Is (mA) Typical: 2; SR (V/us) Typical: 16; Vos (mV) Typical: 3; Vs Min (V): 2.7; DatasheetVersion: Rev. A; PackageVersion: Rev A; PackageReference: LT-TS8-8-TSOT-23; PackageDescription: 8-Lead Plastic TSOT-23, Body 2.9 x 1.63 mm, Pitch 0.65 mm; Supplier 1: Digi-Key; Supplier Part Number 1: LTC6910-3CTS8#TR-ND; Packing: Reel; Type: PGA; Vs Max (V): 11; Mounting Technology: Surface Mount; Code_JEDEC: MO-193; ComponentLink1Description: Manufacturer URL; ComponentLink1URL: http://www.linear.com/; ComponentLink2Description: Datasheet; ComponentLink2URL: http://cds.linear.com/docs/en/datasheet/6910123fa.pdf; ComponentLink3Description: Package Specification; ComponentLink3URL: http://cds.linear.com/docs/en/packaging/SOT_8_05-08-1637.pdf
footprint LT-TS8-8-TSOT-23_V (SOT23, 8-Leads, Body 2.90x1.63mm, Pitch 0.65mm, IPC High Density, Recommended)
pins: 1 OUT (out) "Analog Output. This is the output of an internal operational amplifier and swings to near the power supply rails (V+ and V-) as specified in the Electrical Characteristics table.", 2 AGND (power) "Analog Ground. The AGND pin is at the midpoint of an internal resistive voltage divider, develop- ing a potential halfway between the V+ and V- pins, with an equivalent series resistance to the pin of nominally 5k ohm.", 3 IN (in) "Analog Input. The input signal to the amplifier in the LTC6910-X is the voltage difference between the IN and AGND pins.", 4 V- (power) "Power Supply Pin.", 5 G0 (in) "CMOS-Level Digital Gain- Control Input.", 6 G1 (in) "CMOS-Level Digital Gain- Control Input.", 7 G2 (in) "CMOS-Level Digital Gain- Control Input.", 8 V+ (power) "Power Supply Pin."

## LTC6910-3CTS8#TRM
designator U?
Single Channel, Digitally Controlled Programmable Gain Amplifier, 11 MHz Typical GBW, 16 V/us Typical SR, 2.7 to 11 V, 8-Pin SOT23 (TS8-8), Commercial, Mini Reel; Linear Technology Part Number: LTC6910-3; Manufacturer: Linear Technology; PartNumber: LTC6910-3CTS8#TRM; Channels (#): 1; GBW (MHz) Typical: 11; Is (mA) Typical: 2; SR (V/us) Typical: 16; Vos (mV) Typical: 3; Vs Min (V): 2.7; DatasheetVersion: Rev. A; PackageVersion: Rev A; PackageReference: LT-TS8-8-TSOT-23; PackageDescription: 8-Lead Plastic TSOT-23, Body 2.9 x 1.63 mm, Pitch 0.65 mm; Supplier 1: Digi-Key; Supplier Part Number 1: LTC6910-3CTS8#TRMTR-ND; Supplier 2: Digi-Key; Supplier Part Number 2: LTC6910-3CTS8#TRMCT-ND; Packing: Mini Reel; Type: PGA; Vs Max (V): 11; Mounting Technology: Surface Mount; Code_JEDEC: MO-193; ComponentLink1Description: Manufacturer URL; ComponentLink1URL: http://www.linear.com/; ComponentLink2Description: Datasheet; ComponentLink2URL: http://cds.linear.com/docs/en/datasheet/6910123fa.pdf; ComponentLink3Description: Package Specification; ComponentLink3URL: http://cds.linear.com/docs/en/packaging/SOT_8_05-08-1637.pdf
footprint LT-TS8-8-TSOT-23_V (SOT23, 8-Leads, Body 2.90x1.63mm, Pitch 0.65mm, IPC High Density, Recommended)
pins: 1 OUT (out) "Analog Output. This is the output of an internal operational amplifier and swings to near the power supply rails (V+ and V-) as specified in the Electrical Characteristics table.", 2 AGND (power) "Analog Ground. The AGND pin is at the midpoint of an internal resistive voltage divider, develop- ing a potential halfway between the V+ and V- pins, with an equivalent series resistance to the pin of nominally 5k ohm.", 3 IN (in) "Analog Input. The input signal to the amplifier in the LTC6910-X is the voltage difference between the IN and AGND pins.", 4 V- (power) "Power Supply Pin.", 5 G0 (in) "CMOS-Level Digital Gain- Control Input.", 6 G1 (in) "CMOS-Level Digital Gain- Control Input.", 7 G2 (in) "CMOS-Level Digital Gain- Control Input.", 8 V+ (power) "Power Supply Pin."

## LTC6910-3CTS8#TRMPBF
designator U?
Single Channel, Digitally Controlled Programmable Gain Amplifier, 11 MHz Typical GBW, 16 V/us Typical SR, 2.7 to 11 V, 8-Pin SOT23 (TS8-8), Commercial, Pb-Free, Mini Reel; Linear Technology Part Number: LTC6910-3; Manufacturer: Linear Technology; PartNumber: LTC6910-3CTS8#TRMPBF; Channels (#): 1; GBW (MHz) Typical: 11; Is (mA) Typical: 2; SR (V/us) Typical: 16; Vos (mV) Typical: 3; Vs Min (V): 2.7; DatasheetVersion: Rev. A; PackageVersion: Rev A; PackageReference: LT-TS8-8-TSOT-23; PackageDescription: 8-Lead Plastic TSOT-23, Body 2.9 x 1.63 mm, Pitch 0.65 mm; Supplier 1: Digi-Key; Supplier Part Number 1: LTC6910-3CTS8#TRMPBF-ND; Supplier 2: Newark; Supplier Part Number 2: 57M0354; Packing: Mini Reel; RoHS: Pb-Free; Type: PGA; Vs Max (V): 11; Mounting Technology: Surface Mount; Code_JEDEC: MO-193; ComponentLink1Description: Manufacturer URL; ComponentLink1URL: http://www.linear.com/; ComponentLink2Description: Datasheet; ComponentLink2URL: http://cds.linear.com/docs/en/datasheet/6910123fa.pdf; ComponentLink3Description: Package Specification; ComponentLink3URL: http://cds.linear.com/docs/en/packaging/SOT_8_05-08-1637.pdf
footprint LT-TS8-8-TSOT-23_V (SOT23, 8-Leads, Body 2.90x1.63mm, Pitch 0.65mm, IPC High Density, Recommended)
pins: 1 OUT (out) "Analog Output. This is the output of an internal operational amplifier and swings to near the power supply rails (V+ and V-) as specified in the Electrical Characteristics table.", 2 AGND (power) "Analog Ground. The AGND pin is at the midpoint of an internal resistive voltage divider, develop- ing a potential halfway between the V+ and V- pins, with an equivalent series resistance to the pin of nominally 5k ohm.", 3 IN (in) "Analog Input. The input signal to the amplifier in the LTC6910-X is the voltage difference between the IN and AGND pins.", 4 V- (power) "Power Supply Pin.", 5 G0 (in) "CMOS-Level Digital Gain- Control Input.", 6 G1 (in) "CMOS-Level Digital Gain- Control Input.", 7 G2 (in) "CMOS-Level Digital Gain- Control Input.", 8 V+ (power) "Power Supply Pin."

## LTC6910-3CTS8#TRPBF
designator U?
Single Channel, Digitally Controlled Programmable Gain Amplifier, 11 MHz Typical GBW, 16 V/us Typical SR, 2.7 to 11 V, 8-Pin SOT23 (TS8-8), Commercial, Pb-Free, Reel; Linear Technology Part Number: LTC6910-3; Manufacturer: Linear Technology; PartNumber: LTC6910-3CTS8#TRPBF; Channels (#): 1; GBW (MHz) Typical: 11; Is (mA) Typical: 2; SR (V/us) Typical: 16; Vos (mV) Typical: 3; Vs Min (V): 2.7; DatasheetVersion: Rev. A; PackageVersion: Rev A; PackageReference: LT-TS8-8-TSOT-23; PackageDescription: 8-Lead Plastic TSOT-23, Body 2.9 x 1.63 mm, Pitch 0.65 mm; Supplier 1: Digi-Key; Supplier Part Number 1: LTC6910-3CTS8#TRPBF-ND; Packing: Reel; RoHS: Pb-Free; Type: PGA; Vs Max (V): 11; Mounting Technology: Surface Mount; Code_JEDEC: MO-193; ComponentLink1Description: Manufacturer URL; ComponentLink1URL: http://www.linear.com/; ComponentLink2Description: Datasheet; ComponentLink2URL: http://cds.linear.com/docs/en/datasheet/6910123fa.pdf; ComponentLink3Description: Package Specification; ComponentLink3URL: http://cds.linear.com/docs/en/packaging/SOT_8_05-08-1637.pdf
footprint LT-TS8-8-TSOT-23_V (SOT23, 8-Leads, Body 2.90x1.63mm, Pitch 0.65mm, IPC High Density, Recommended)
pins: 1 OUT (out) "Analog Output. This is the output of an internal operational amplifier and swings to near the power supply rails (V+ and V-) as specified in the Electrical Characteristics table.", 2 AGND (power) "Analog Ground. The AGND pin is at the midpoint of an internal resistive voltage divider, develop- ing a potential halfway between the V+ and V- pins, with an equivalent series resistance to the pin of nominally 5k ohm.", 3 IN (in) "Analog Input. The input signal to the amplifier in the LTC6910-X is the voltage difference between the IN and AGND pins.", 4 V- (power) "Power Supply Pin.", 5 G0 (in) "CMOS-Level Digital Gain- Control Input.", 6 G1 (in) "CMOS-Level Digital Gain- Control Input.", 7 G2 (in) "CMOS-Level Digital Gain- Control Input.", 8 V+ (power) "Power Supply Pin."

## LTC6910-3HTS8
designator U?
Single Channel, Digitally Controlled Programmable Gain Amplifier, 11 MHz Typical GBW, 16 V/us Typical SR, 2.7 to 11 V, 8-Pin SOT23 (TS8-8), High Temperature / Automotive; Linear Technology Part Number: LTC6910-3; Manufacturer: Linear Technology; PartNumber: LTC6910-3HTS8; Channels (#): 1; GBW (MHz) Typical: 11; Is (mA) Typical: 2; SR (V/us) Typical: 16; Vos (mV) Typical: 3; Vs Min (V): 2.7; DatasheetVersion: Rev. A; PackageVersion: Rev A; PackageReference: LT-TS8-8-TSOT-23; PackageDescription: 8-Lead Plastic TSOT-23, Body 2.9 x 1.63 mm, Pitch 0.65 mm; Type: PGA; Vs Max (V): 11; Mounting Technology: Surface Mount; Code_JEDEC: MO-193; ComponentLink1Description: Manufacturer URL; ComponentLink1URL: http://www.linear.com/; ComponentLink2Description: Datasheet; ComponentLink2URL: http://cds.linear.com/docs/en/datasheet/6910123fa.pdf; ComponentLink3Description: Package Specification; ComponentLink3URL: http://cds.linear.com/docs/en/packaging/SOT_8_05-08-1637.pdf
footprint LT-TS8-8-TSOT-23_V (SOT23, 8-Leads, Body 2.90x1.63mm, Pitch 0.65mm, IPC High Density, Recommended)
pins: 1 OUT (out) "Analog Output. This is the output of an internal operational amplifier and swings to near the power supply rails (V+ and V-) as specified in the Electrical Characteristics table.", 2 AGND (power) "Analog Ground. The AGND pin is at the midpoint of an internal resistive voltage divider, develop- ing a potential halfway between the V+ and V- pins, with an equivalent series resistance to the pin of nominally 5k ohm.", 3 IN (in) "Analog Input. The input signal to the amplifier in the LTC6910-X is the voltage difference between the IN and AGND pins.", 4 V- (power) "Power Supply Pin.", 5 G0 (in) "CMOS-Level Digital Gain- Control Input.", 6 G1 (in) "CMOS-Level Digital Gain- Control Input.", 7 G2 (in) "CMOS-Level Digital Gain- Control Input.", 8 V+ (power) "Power Supply Pin."

## LTC6910-3HTS8#PBF
designator U?
Single Channel, Digitally Controlled Programmable Gain Amplifier, 11 MHz Typical GBW, 16 V/us Typical SR, 2.7 to 11 V, 8-Pin SOT23 (TS8-8), High Temperature / Automotive, Pb-Free; Linear Technology Part Number: LTC6910-3; Manufacturer: Linear Technology; PartNumber: LTC6910-3HTS8#PBF; Channels (#): 1; GBW (MHz) Typical: 11; Is (mA) Typical: 2; SR (V/us) Typical: 16; Vos (mV) Typical: 3; Vs Min (V): 2.7; DatasheetVersion: Rev. A; PackageVersion: Rev A; PackageReference: LT-TS8-8-TSOT-23; PackageDescription: 8-Lead Plastic TSOT-23, Body 2.9 x 1.63 mm, Pitch 0.65 mm; RoHS: Pb-Free; Type: PGA; Vs Max (V): 11; Mounting Technology: Surface Mount; Code_JEDEC: MO-193; ComponentLink1Description: Manufacturer URL; ComponentLink1URL: http://www.linear.com/; ComponentLink2Description: Datasheet; ComponentLink2URL: http://cds.linear.com/docs/en/datasheet/6910123fa.pdf; ComponentLink3Description: Package Specification; ComponentLink3URL: http://cds.linear.com/docs/en/packaging/SOT_8_05-08-1637.pdf
footprint LT-TS8-8-TSOT-23_V (SOT23, 8-Leads, Body 2.90x1.63mm, Pitch 0.65mm, IPC High Density, Recommended)
pins: 1 OUT (out) "Analog Output. This is the output of an internal operational amplifier and swings to near the power supply rails (V+ and V-) as specified in the Electrical Characteristics table.", 2 AGND (power) "Analog Ground. The AGND pin is at the midpoint of an internal resistive voltage divider, develop- ing a potential halfway between the V+ and V- pins, with an equivalent series resistance to the pin of nominally 5k ohm.", 3 IN (in) "Analog Input. The input signal to the amplifier in the LTC6910-X is the voltage difference between the IN and AGND pins.", 4 V- (power) "Power Supply Pin.", 5 G0 (in) "CMOS-Level Digital Gain- Control Input.", 6 G1 (in) "CMOS-Level Digital Gain- Control Input.", 7 G2 (in) "CMOS-Level Digital Gain- Control Input.", 8 V+ (power) "Power Supply Pin."

## LTC6910-3HTS8#TR
designator U?
Single Channel, Digitally Controlled Programmable Gain Amplifier, 11 MHz Typical GBW, 16 V/us Typical SR, 2.7 to 11 V, 8-Pin SOT23 (TS8-8), High Temperature / Automotive, Reel; Linear Technology Part Number: LTC6910-3; Manufacturer: Linear Technology; PartNumber: LTC6910-3HTS8#TR; Channels (#): 1; GBW (MHz) Typical: 11; Is (mA) Typical: 2; SR (V/us) Typical: 16; Vos (mV) Typical: 3; Vs Min (V): 2.7; DatasheetVersion: Rev. A; PackageVersion: Rev A; PackageReference: LT-TS8-8-TSOT-23; PackageDescription: 8-Lead Plastic TSOT-23, Body 2.9 x 1.63 mm, Pitch 0.65 mm; Supplier 1: Digi-Key; Supplier Part Number 1: LTC6910-3HTS8#TR-ND; Packing: Reel; Type: PGA; Vs Max (V): 11; Mounting Technology: Surface Mount; Code_JEDEC: MO-193; ComponentLink1Description: Manufacturer URL; ComponentLink1URL: http://www.linear.com/; ComponentLink2Description: Datasheet; ComponentLink2URL: http://cds.linear.com/docs/en/datasheet/6910123fa.pdf; ComponentLink3Description: Package Specification; ComponentLink3URL: http://cds.linear.com/docs/en/packaging/SOT_8_05-08-1637.pdf
footprint LT-TS8-8-TSOT-23_V (SOT23, 8-Leads, Body 2.90x1.63mm, Pitch 0.65mm, IPC High Density, Recommended)
pins: 1 OUT (out) "Analog Output. This is the output of an internal operational amplifier and swings to near the power supply rails (V+ and V-) as specified in the Electrical Characteristics table.", 2 AGND (power) "Analog Ground. The AGND pin is at the midpoint of an internal resistive voltage divider, develop- ing a potential halfway between the V+ and V- pins, with an equivalent series resistance to the pin of nominally 5k ohm.", 3 IN (in) "Analog Input. The input signal to the amplifier in the LTC6910-X is the voltage difference between the IN and AGND pins.", 4 V- (power) "Power Supply Pin.", 5 G0 (in) "CMOS-Level Digital Gain- Control Input.", 6 G1 (in) "CMOS-Level Digital Gain- Control Input.", 7 G2 (in) "CMOS-Level Digital Gain- Control Input.", 8 V+ (power) "Power Supply Pin."